# Altium footprint library Miscellaneous.PcbLib: 46 footprints (part 1 of 3)
Each footprint in its own frame and in the unit in brackets; x right, y up, seen from the top. Pads: shape width x height; smd on the part's side, far side on the other; paste and mask are expansions set on the pad; w line width, h text height; cw(c..) or ccw(c..) is an arc to the next point about the centre after c.
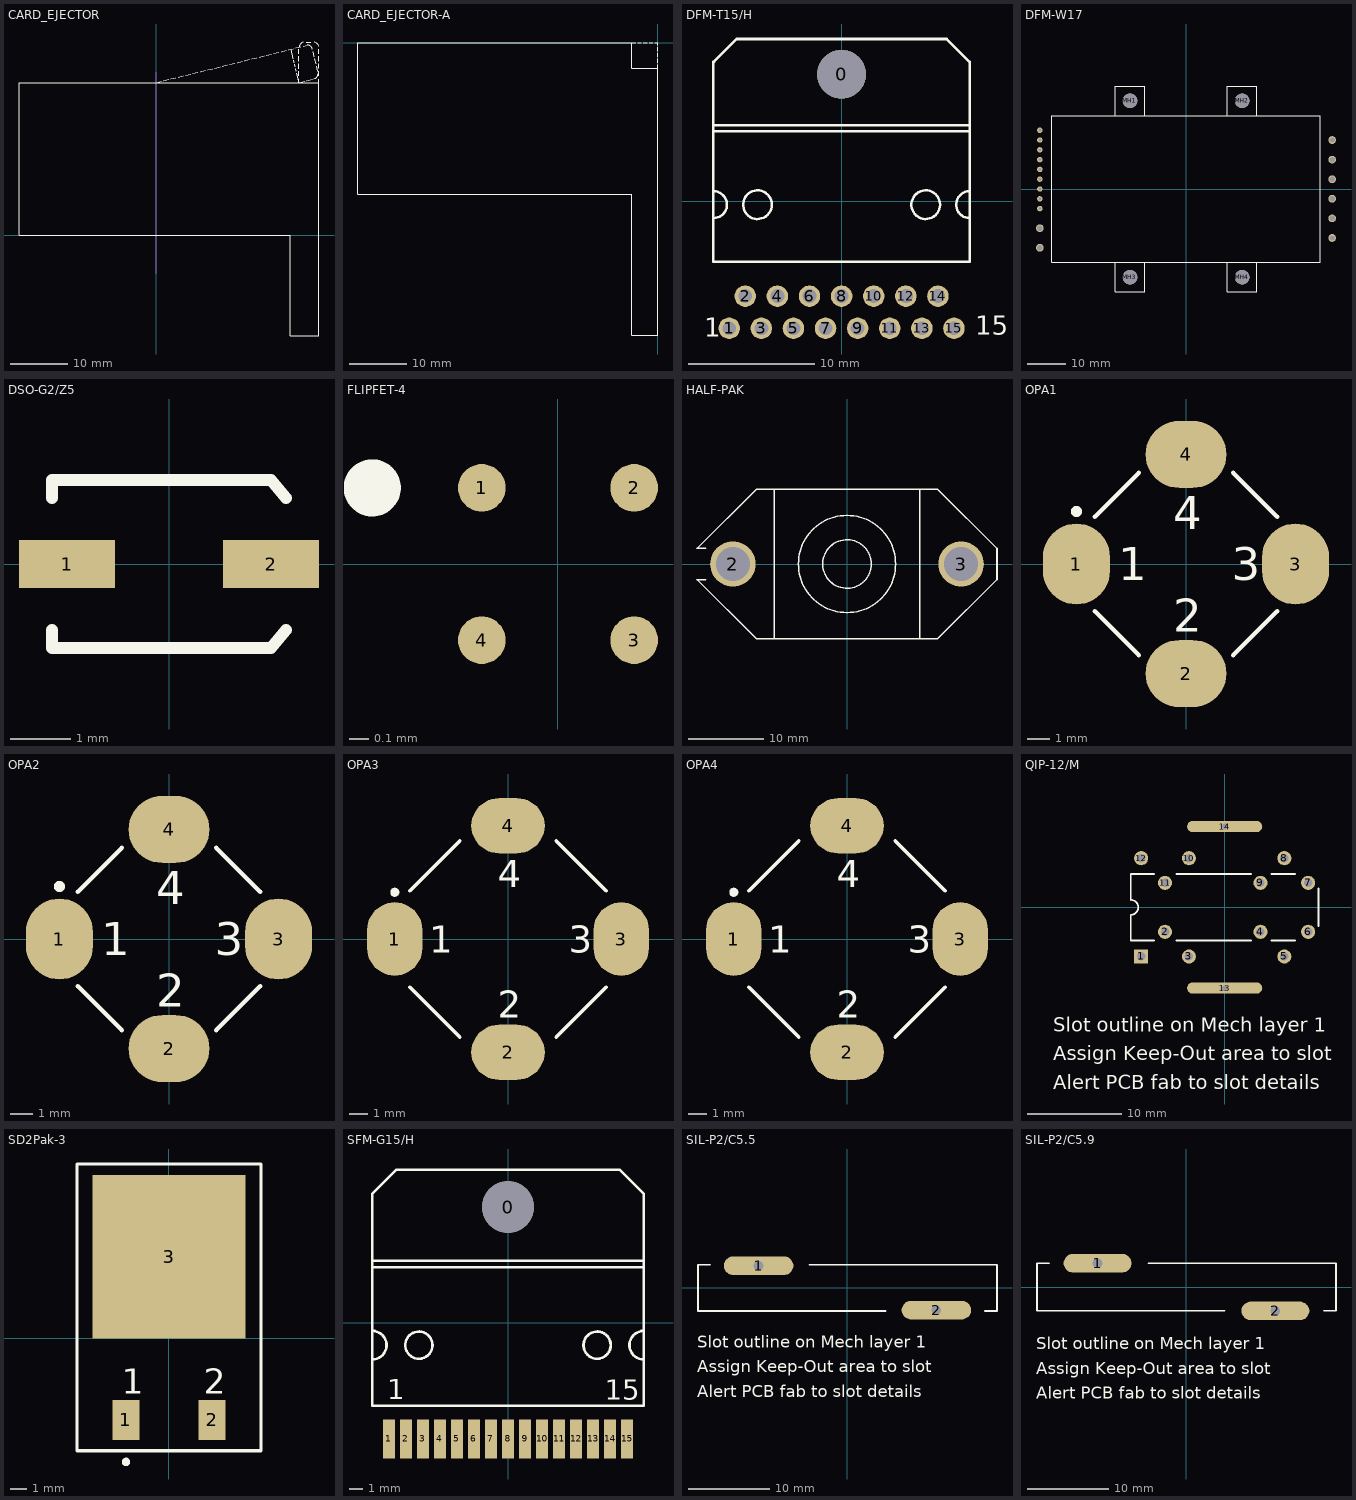
[diagram p0: the footprints below, top view; thin cyan lines are the x and y axes]

## CARD_EJECTOR [mm] "Ejector for CompactFlash Card Header, Type I; Right Button"
height 7.2
Top Overlay:
  lines w0.2: 0,26.5 0.875,26.717 ; 1.28,26.81 2.156,27.028 ; 2.56,27.13 3.435,27.347 ; 3.84,27.45 4.715,27.667 ; 5.115,27.763 5.99,27.98 ; 6.386,28.081 7.26,28.298 ; 7.666,28.398 8.541,28.615 ; 8.944,28.705 9.818,28.922 ; 10.224,29.015 11.099,29.234 ; 11.501,29.348 12.376,29.564 ; 12.78,29.663 13.655,29.879 ; 14.061,29.98 14.936,30.197 ; 15.339,30.306 16.203,30.512 ; 16.608,30.612 17.483,30.828 ; 17.881,30.927 18.756,31.144 ; 19.159,31.251 20.024,31.457 ; 20.43,31.557 21.305,31.772 ; 21.708,31.872 22.583,32.089 ; 22.983,32.197 23.848,32.403 ; 23.362,32.289 23.752,30.652 ; 23.822,30.378 23.922,29.944 ; 23.991,29.66 24.091,29.226 ; 24.175,28.896 24.275,28.462 ; 24.252,32.503 25.127,32.719 ; 24.359,28.137 24.749,26.5 ; 24.764,26.5 25.799,26.759 ; 24.775,26.5 24.775,27.1 ; 24.779,27.641 24.779,28.441 ; 24.779,28.937 24.779,29.737 ; 24.779,30.233 24.779,31.033 ; 24.779,31.465 24.779,32.265 ; 24.859,32.75 cw(c25.729,32.635) 25.582,33.5 ; 25.531,32.819 26.268,33.018 ; 26.094,26.829 27.129,27.088 ; 26.093,33.5 26.893,33.5 ; 26.291,33.026 cw(c26.262,32.149) 27.127,32.296 ; 27.212,31.878 27.412,31.02 ; 27.406,27.171 ccw(c27.26,28.035) 28.136,28.006 ; 27.444,33.494 cw(c27.415,32.618) 28.28,32.764 ; 27.503,30.652 27.703,29.794 ; 27.511,30.652 27.711,29.794 ; 27.825,29.35 28.025,28.492 ; 28.28,27.1 28.28,26.5 ; 28.28,27.644 28.28,28.444 ; 28.28,28.94 28.28,29.74 ; 28.28,30.236 28.28,31.036 ; 28.28,31.468 28.28,32.268 ; 28.28,26.5 28.28,0 28.28,-17.5 23.34,-17.5 23.34,0 -23.82,0 -23.82,26.5 28.28,26.5
Mechanical 1:
  lines w0.1: 0,-6.75 0,28.25 0,26.55

## CARD_EJECTOR-A [mm] "Ejector for CompactFlash Card Header, Type II; Right Button"
height 7.12
Top Overlay:
  lines w0.2: -3.9,0 -4.56,0 ; -3.56,0 -2.9,0 ; -2.56,0 -1.9,0 ; -1.56,0 -0.9,0 ; -0.56,0 0,0 0,-0.45 ; 0,-3.79 0,-4.45 ; 0,-3.45 0,-2.79 ; 0,-2.45 0,-1.79 ; 0,-1.45 0,-0.79 ; -4.56,0 -4.56,-4.45 0,-4.45 ; -4.56,0 -52.2,0 -52.2,-26.4 -4.56,-26.4 -4.56,-50.9 0,-50.9 0,-4.45

## DFM-T15/H [mm] "TO, Thru-Hole, Horizontal, Heatsink Mounted; 15 Bent Staggered Leads; Pitch 1.27 mm"
height 4.62
pads (16):
  round 3.86 hole 3.86: 0(0,10.045)
  round 1.7 hole 1.1: 1(-8.89,-10.045) 2(-7.62,-7.505) 3(-6.35,-10.045) 4(-5.08,-7.505) 5(-3.81,-10.045) 6(-2.54,-7.505) 7(-1.27,-10.045) 8(0,-7.505) 9(1.27,-10.045) 10(2.54,-7.505) 11(3.81,-10.045) 12(5.08,-7.505) 13(6.35,-10.045) 14(7.62,-7.505) 15(8.89,-10.045)
Top Overlay:
  circle w0.2: c6.656,-0.271 r1.136
  circle w0.2: c-6.656,-0.271 r1.136
  lines w0.2: -10.135,-1.336 ccw(c-10.135,-0.271) -10.135,0.795 ; -10.135,5.555 10.135,5.555 ; -10.135,6.025 10.135,6.025 ; -10.135,11.05 -10.135,11.045 -10.135,-4.794 10.135,-4.795 10.135,11.045 ; -10.09,11.045 -8.3,12.836 8.3,12.836 10.09,11.045 ; 10.135,-1.336 cw(c10.135,-0.271) 10.135,0.795
  text "1" at -10.863,-10.731 h1.5
  text "15" at 10.554,-10.556 h1.5

## DFM-W17 [mm] "DC/DC Converter; 17 pins; Body 70 x 38 mm"
height 10.16
pads (21):
  round 1.4 hole 0.8: 1(-37.91,15.24) 2(-37.91,12.7) 3(-37.91,10.16) 4(-37.91,7.62) 5(-37.91,5.08) 6(-37.91,2.54) 7(-37.91,0) 8(-37.91,-2.54) 9(-37.91,-5.08)
  round 2 hole 1.4: 10(-37.91,-10.16) 11(-37.91,-15.24) 12(37.91,-12.7) 13(37.91,-7.62) 14(37.91,-2.54) 15(37.91,2.54) 16(37.91,7.62) 17(37.91,12.7)
  round 3.78 hole 3.78 unplated: MH1(-14.53,22.86) MH2(14.54,22.86) MH3(-14.53,-22.86) MH4(14.54,-22.86)
Top Overlay:
  lines w0.2: -18.34,-19.05 -18.34,-26.67 -10.72,-26.67 -10.72,-19.05 ; -18.34,19.05 -18.34,26.67 -10.72,26.67 -10.72,19.05 ; 10.73,-19.05 10.73,-26.67 18.35,-26.67 18.35,-19.05 ; 10.73,19.05 10.73,26.67 18.2,26.67 ; 18.35,19.05 18.35,26.67 ; -34.86,-19.05 -34.86,19.05 34.86,19.05 34.86,-19.05 -34.86,-19.05

## DSO-G2/Z5 [mm] "SOD-123; 2 Leads; Body 2.7 x 1.6 mm, (LxW)"
height 1.35
pads (2):
  rect 1.6x0.8 smd: 1(-1.7,0) 2(1.7,0)
Top Overlay:
  lines w0.2: -1.95,-1.098 -1.95,-1.4 1.7,-1.4 1.95,-1.098 ; -1.95,1.098 -1.95,1.4 1.7,1.4 1.95,1.098

## FLIPFET-4 [mm] "FlipFET; 4 Balls; Body 1.5 x1.5 x 0.8 (LxWxH)"
height 0.762
pads (4):
  round 0.25 smd: 1(-0.4,0.4) 2(0.4,0.4) 3(0.4,-0.4) 4(-0.4,-0.4)
Top Overlay:
  circle w0.15: c-0.975,0.4 r0.075

## HALF-PAK [mm] "Half-Pak Module; 1 Lug Terminal, 1 Base Terminal; Body 39.62 x 19.69 x 15.11 mm (LxWxH max)"
height 15.11
pads (2):
  round 6 hole 4.5: 2(-15.075,0) 3(15.075,0)
Top Overlay:
  circle w0.2: c0,0 r3.207
  circle w0.2: c0,0 r6.415
  lines w0.2: -18.67,-2.055 -19.81,-2.055 -11.988,-9.845 11.988,-9.845 19.81,-2.055 19.81,2.055 11.988,9.845 -11.988,9.845 -19.81,2.055 -18.67,2.055 ; -9.59,-9.845 -9.59,9.845 ; 9.59,-9.845 9.59,9.845

## OPA1 [mm] "SM Inductor/Transformer; 4 Leads; Body 8.89 x 8.89 x 4.19 mm (LxWxH)"
height 4.19
pads (4):
  oval 3.05x3.68 smd: 1(-4.98,0) 3(4.98,0)
  oval 3.68x3.05 smd: 2(0,-4.98) 4(0,4.98)
Top Overlay:
  circle w0.25: c-4.98,2.39 r0.125
  lines w0.2: -4.145,-2.14 -2.14,-4.145 ; -4.145,2.14 -2.14,4.145 ; 2.14,-4.145 4.145,-2.14 ; 2.14,4.145 4.145,2.14
  text "1" at -3.08,-0.75 h1.5
  text "2" at -0.575,-3.08 h1.5
  text "4" at -0.575,1.58 h1.5
  text "3" at 2.08,-0.75 h1.5

## OPA2 [mm] "SM Inductor/Transformer; 4 Leads; Body 8.89 x 8.89 x 5.97 mm (LxWxH)"
height 5.97
pads (4):
  oval 3.05x3.68 smd: 1(-4.98,0) 3(4.98,0)
  oval 3.68x3.05 smd: 2(0,-4.98) 4(0,4.98)
Top Overlay:
  circle w0.25: c-4.98,2.39 r0.125
  lines w0.2: -4.145,-2.14 -2.14,-4.145 ; -4.145,2.14 -2.14,4.145 ; 2.14,-4.145 4.145,-2.14 ; 2.14,4.145 4.145,2.14
  text "1" at -3.08,-0.75 h1.5
  text "2" at -0.575,-3.08 h1.5
  text "4" at -0.575,1.58 h1.5
  text "3" at 2.08,-0.75 h1.5

## OPA3 [mm] "SM Inductor/Transformer; 4 Leads; Body 11.43 x 11.43 x 4.83 mm (LxWxH)"
height 4.83
pads (4):
  oval 3.05x4.06 smd: 1(-6.25,0) 3(6.25,0)
  oval 4.06x3.05 smd: 2(0,-6.25) 4(0,6.25)
Top Overlay:
  circle w0.25: c-6.25,2.58 r0.125
  lines w0.2: -5.415,-2.66 -2.66,-5.415 ; -5.415,2.66 -2.66,5.415 ; 2.66,-5.415 5.415,-2.66 ; 2.66,5.415 5.415,2.66
  text "3" at 3.35,-0.75 h1.5
  text "2" at -0.575,-4.35 h1.5
  text "4" at -0.575,2.85 h1.5
  text "1" at -4.35,-0.75 h1.5

## OPA4 [mm] "SM Inductor/Transformer; 4 Leads; Body 11.43 x 11.43 x 6.35 mm (LxWxH)"
height 6.35
pads (4):
  oval 3.05x4.06 smd: 1(-6.25,0) 3(6.25,0)
  oval 4.06x3.05 smd: 2(0,-6.25) 4(0,6.25)
Top Overlay:
  circle w0.25: c-6.25,2.58 r0.125
  lines w0.2: -5.415,-2.66 -2.66,-5.415 ; -5.415,2.66 -2.66,5.415 ; 2.66,-5.415 5.415,-2.66 ; 2.66,5.415 5.415,2.66
  text "3" at 3.35,-0.75 h1.5
  text "2" at -0.575,-4.35 h1.5
  text "4" at -0.575,2.85 h1.5
  text "1" at -4.35,-0.75 h1.5

## QIP-12/M [mm] "QUIP; 12 Leads, in two Staggered Rows, plus 2 Heatsink tabs"
height 5.8
pads (14):
  rect 1.5x1.5 hole 0.9: 1(-8.89,-5.23)
  round 1.5 hole 0.9: 2(-6.35,-2.605) 3(-3.81,-5.23) 4(3.81,-2.605) 5(6.35,-5.23) 6(8.89,-2.605) 7(8.89,2.605) 8(6.35,5.23) 9(3.81,2.605) 10(-3.81,5.23) 11(-6.35,2.605) 12(-8.89,5.23)
  oval 8x1.2 hole 0.6: 13(0,-8.6) 14(0,8.6)
Top Overlay:
  lines w0.2: -7.5,-3.55 -10,-3.55 -10,-0.8 ccw(c-10,0) -10,0.8 -10,3.55 -7.5,3.55 ; -5.15,-3.55 2.8,-3.55 ; -5.15,3.55 2.8,3.55 ; 5,-3.55 7.5,-3.55 ; 5,3.55 7.5,3.55 ; 10,-2 10,2
  text "Slot outline on Mech layer 1" at -18.24,-13.25 h1.5
  text "Assign Keep-Out area to slot" at -18.24,-16.298 h1.5
  text "Alert PCB fab to slot details" at -18.24,-19.346 h1.5
Mechanical 1:
  lines w0.2: -3.3,-8.9 cw(c-3.3,-8.6) -3.3,-8.3 3.3,-8.3 cw(c3.3,-8.6) 3.3,-8.9 -3.3,-8.9 ; -3.3,8.3 cw(c-3.3,8.6) -3.3,8.9 3.3,8.9 cw(c3.3,8.6) 3.3,8.3 -3.3,8.3

## SD2Pak-3 [mm] "D2-PAK; 3 Leads (1 Cropped); Body 15.2 (inc. leads) x 10.9 mm (LxW max)"
height 4
pads (3):
  rect 1.61x2.37 smd: 1(-2.55,-4.837) 2(2.55,-4.837)
  rect 9.05x9.68 smd: 3(0,4.838)
Top Overlay:
  circle w0.25: c-2.55,-7.322 r0.125
  lines w0.2: -5.45,-6.672 -5.45,10.328 5.45,10.328 5.45,-6.672 -5.45,-6.672
  text "1" at -2.8,-3.277 h1.5
  text "2" at 2.05,-3.277 h1.5

## SFM-G15/H [mm] "TO, SM, Horizontal, Heatsink Mounted; 15 Leads; Pitch 1.27 mm"
height 4.62
pads (16):
  round 3.86 hole 3.86: 0(0,8.66)
  rect 0.9x2.9 smd: 1(-8.89,-8.66) 2(-7.62,-8.66) 3(-6.35,-8.66) 4(-5.08,-8.66) 5(-3.81,-8.66) 6(-2.54,-8.66) 7(-1.27,-8.66) 8(0,-8.66) 9(1.27,-8.66) 10(2.54,-8.66) 11(3.81,-8.66) 12(5.08,-8.66) 13(6.35,-8.66) 14(7.62,-8.66) 15(8.89,-8.66)
Top Overlay:
  circle w0.2: c-6.656,-1.656 r1.016
  circle w0.2: c6.656,-1.656 r1.016
  lines w0.2: -10.135,-2.722 ccw(c-10.135,-1.656) -10.135,-0.59 ; -10.135,4.17 10.135,4.17 ; -10.135,4.64 10.135,4.64 ; 10.13,9.66 8.34,11.45 -8.34,11.45 -10.13,9.66 -10.135,9.66 -10.135,-6.18 10.135,-6.18 10.135,9.66 ; 10.135,-2.722 cw(c10.135,-1.656) 10.135,-0.59
  text "1" at -9.012,-5.701 h1.5
  text "15" at 7.223,-5.741 h1.5

## SIL-P2/C5.5 [mm] "MOV; 2 Terminals; Body 37 x 5.7 x 44.5 mm (LxWxH)"
height 44.5
pads (2):
  oval 8.6x2.3 hole 1.2: 1(-11,2.75) 2(11,-2.75)
Top Overlay:
  lines w0.2: -17,2.85 -18.5,2.85 -18.5,-2.85 4.7,-2.85 ; -4.7,2.85 18.5,2.85 18.5,-2.85 17,-2.85
  text "Alert PCB fab to slot details" at -18.62,-13.506 h1.5
  text "Assign Keep-Out area to slot" at -18.62,-10.458 h1.5
  text "Slot outline on Mech layer 1" at -18.62,-7.41 h1.5
Mechanical 1:
  lines w0.2: -14.05,2.15 cw(c-14.05,2.75) -14.05,3.35 -7.95,3.35 cw(c-7.95,2.75) -7.95,2.15 -14.05,2.15 ; 7.95,-3.35 cw(c7.95,-2.75) 7.95,-2.15 14.05,-2.15 cw(c14.05,-2.75) 14.05,-3.35 7.95,-3.35

## SIL-P2/C5.9 [mm] "MOV; 2 Terminals; Body 37 x 5.9 x 44.5 mm (LxWxH)"
height 44.5
pads (2):
  oval 8.4x2.3 hole 1.2: 1(-11,2.95) 2(11,-2.95)
Top Overlay:
  lines w0.2: -17,2.95 -18.5,2.95 -18.5,-2.95 4.7,-2.95 ; -4.7,2.95 18.5,2.95 18.5,-2.95 17,-2.95
  text "Slot outline on Mech layer 1" at -18.62,-7.718 h1.5
  text "Assign Keep-Out area to slot" at -18.62,-10.766 h1.5
  text "Alert PCB fab to slot details" at -18.62,-13.814 h1.5
Mechanical 1:
  lines w0.2: -14.05,2.35 cw(c-14.05,2.95) -14.05,3.55 -7.95,3.55 cw(c-7.95,2.95) -7.95,2.35 -14.05,2.35 ; 7.95,-3.55 cw(c7.95,-2.95) 7.95,-2.35 14.05,-2.35 cw(c14.05,-2.95) 14.05,-3.55 7.95,-3.55